# Altium footprint library ABS07-32.768KHZ-9-1-T.PcbLib: 1 footprints
Each footprint in its own frame and in the unit in brackets; x right, y up, seen from the top. Pads: shape width x height; smd on the part's side, far side on the other; paste and mask are expansions set on the pad; w line width, h text height; cw(c..) or ccw(c..) is an arc to the next point about the centre after c.
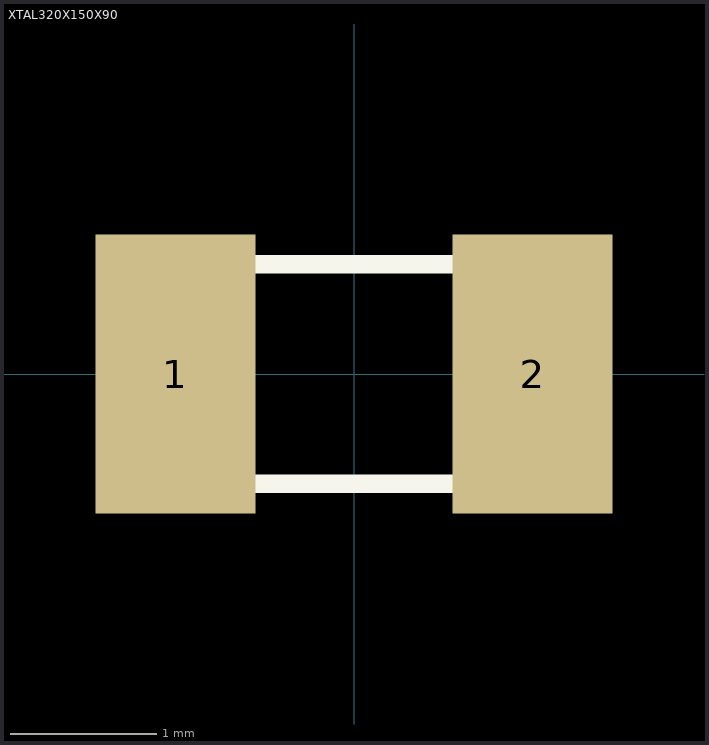
[diagram p0: the footprint, top view; thin cyan lines are the x and y axes]

## XTAL320X150X90 [mil]
pads (2):
  rect 43x75 smd: 1(-48,0) 2(48,0)
Top Overlay:
  lines w5: -63,-29.5 -63,29.5 63,29.5 63,-29.5 -63,-29.5
3D body "step_temp.STEP": height 35.43, standoff 0, extent -62.99,-29.53 62.99,29.53